# EAGLE library part TP4056 (library TP4056)
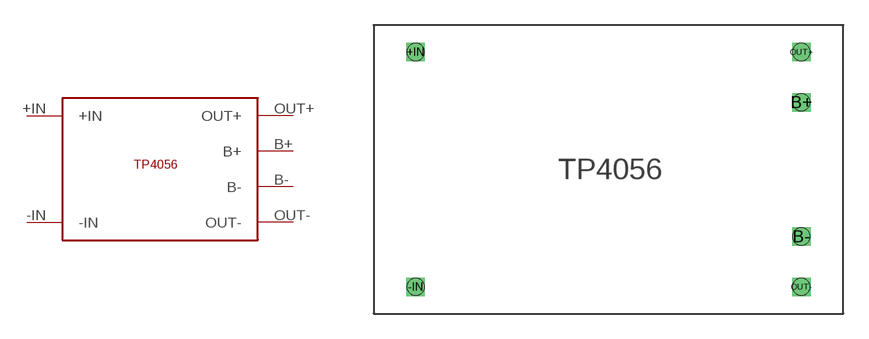
[diagram p0: symbol with the pads of TP4056; footprint TP4056]

Designator prefix -

## TP4056  [TP4056]
+IN  +IN
-IN  -IN
B+  B+
B-  B-
OUT+  OUT+
OUT-  OUT-

## Footprint TP4056 (pad centres in mm)
drill 0.6 square: +IN 2.5,15.6; -IN 2.5,1.6; B+ 25.5,12.6; B- 25.5,4.6; OUT+ 25.5,15.6; OUT- 25.5,1.6
hole 1.02 at 2.5,1.6
hole 1.02 at 2.5,15.6
hole 1.02 at 25.5,1.6
hole 1.02 at 25.5,15.6
hole 1.02 at 25.5,4.6
hole 1.02 at 25.5,12.6